# Altium footprint library SG__PCB_LGA.PcbLib: 21 footprints (part 2 of 2)
Each footprint in its own frame and in the unit in brackets; x right, y up, seen from the top. Pads: shape width x height; smd on the part's side, far side on the other; paste and mask are expansions set on the pad; w line width, h text height; cw(c..) or ccw(c..) is an arc to the next point about the centre after c.
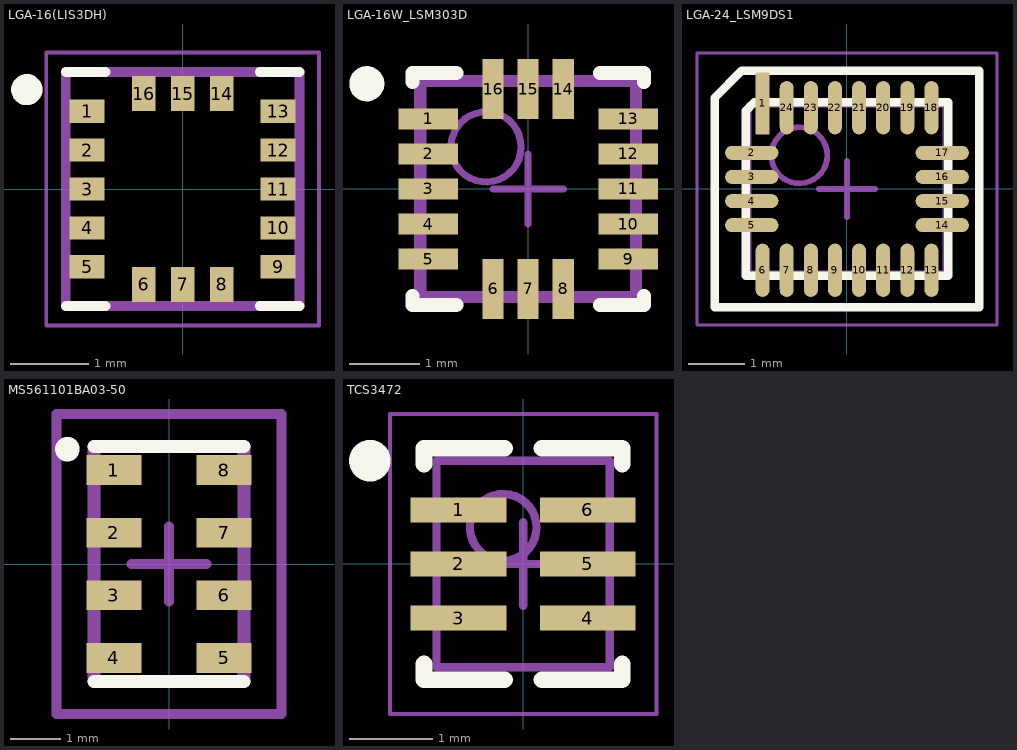
[diagram p1: the footprints below, top view; thin cyan lines are the x and y axes]

## LGA-16(LIS3DH) [mm]
pads (16):
  rect 0.45x0.3 smd paste-1 mask+0: 1(-1.225,1) 2(-1.225,0.5) 3(-1.225,0) 4(-1.225,-0.5) 5(-1.225,-1) 9(1.225,-1) 10(1.225,-0.5) 11(1.225,0) 12(1.225,0.5) 13(1.225,1)
  rect 0.3x0.45 smd paste-1 mask+0: 6(-0.5,-1.225) 7(0,-1.225) 8(0.5,-1.225) 14(0.5,1.225) 15(0,1.225) 16(-0.5,1.225)
Top Overlay:
  circle w0.2: c-2,1.275 r0.1
  lines w0.127: -1.5,-1.5 -0.99,-1.5 ; -1.5,1.5 -0.99,1.5 ; 0.99,-1.5 1.5,-1.5 ; 0.99,1.5 1.5,1.5
Top Paste:
  region: 0.14,-1.405 -0.14,-1.405 -0.14,-1.045 0.14,-1.045
  region: -1.045,-0.14 -1.405,-0.14 -1.405,0.14 -1.045,0.14
  region: 1.405,-0.14 1.045,-0.14 1.045,0.14 1.405,0.14
  region: 0.14,1.045 -0.14,1.045 -0.14,1.405 0.14,1.405
  region: -0.36,1.045 -0.64,1.045 -0.64,1.405 -0.36,1.405
  region: 0.64,1.045 0.36,1.045 0.36,1.405 0.64,1.405
  region: 1.405,0.36 1.045,0.36 1.045,0.64 1.405,0.64
  region: 1.405,0.86 1.045,0.86 1.045,1.14 1.405,1.14
  region: 1.405,-0.64 1.045,-0.64 1.045,-0.36 1.405,-0.36
  region: 1.405,-1.14 1.045,-1.14 1.045,-0.86 1.405,-0.86
  region: 0.64,-1.405 0.36,-1.405 0.36,-1.045 0.64,-1.045
  region: -0.36,-1.405 -0.64,-1.405 -0.64,-1.045 -0.36,-1.045
  region: -1.045,-0.64 -1.405,-0.64 -1.405,-0.36 -1.045,-0.36
  region: -1.045,-1.14 -1.405,-1.14 -1.405,-0.86 -1.045,-0.86
  region: -1.045,0.36 -1.405,0.36 -1.405,0.64 -1.045,0.64
  region: -1.045,0.86 -1.405,0.86 -1.405,1.14 -1.045,1.14
Top Solder:
  region: -0.95,-0.225 -1.5,-0.225 -1.5,0.225 -0.95,0.225
  region: 1.5,-0.225 0.95,-0.225 0.95,0.225 1.5,0.225
  region: 0.225,0.95 -0.225,0.95 -0.225,1.5 0.225,1.5
  region: 0.225,-1.5 -0.225,-1.5 -0.225,-0.95 0.225,-0.95
  region: -0.275,0.95 -0.725,0.95 -0.725,1.5 -0.275,1.5
  region: 0.725,0.95 0.275,0.95 0.275,1.5 0.725,1.5
  region: -0.95,0.275 -1.5,0.275 -1.5,0.725 -0.95,0.725
  region: -0.95,0.775 -1.5,0.775 -1.5,1.225 -0.95,1.225
  region: -0.95,-0.725 -1.5,-0.725 -1.5,-0.275 -0.95,-0.275
  region: -0.95,-1.225 -1.5,-1.225 -1.5,-0.775 -0.95,-0.775
  region: -0.275,-1.5 -0.725,-1.5 -0.725,-0.95 -0.275,-0.95
  region: 0.725,-1.5 0.275,-1.5 0.275,-0.95 0.725,-0.95
  region: 1.5,-0.725 0.95,-0.725 0.95,-0.275 1.5,-0.275
  region: 1.5,-1.225 0.95,-1.225 0.95,-0.775 1.5,-0.775
  region: 1.5,0.275 0.95,0.275 0.95,0.725 1.5,0.725
  region: 1.5,0.775 0.95,0.775 0.95,1.225 1.5,1.225
Mechanical 13:
  circle w0.2: c-2,1.275 r0.1
Assembly Top:
  lines w0.127: -1.5,-1.5 -1.5,1.5 1.5,1.5 1.5,-1.5 -1.5,-1.5
Courtyard Top:
  lines w0.05: -1.75,-1.75 -1.75,1.75 1.75,1.75 1.75,-1.75 -1.75,-1.75
3D body "step_temp.STEP": height 1, standoff 0, extent -1.5,-1.5 1.5,1.5

## LGA-16W_LSM303D [mm] "QFN, 16-Leads, Body 3,00x3,00mm, Pitch 0,50mm, Thermal Pad 1,25x2,25mm, IPC Medium Density"
height 1
pads (16):
  rect 0.85x0.3 smd: 1(-1.425,1) 2(-1.425,0.5) 3(-1.425,0) 4(-1.425,-0.5) 5(-1.425,-1) 9(1.425,-1) 10(1.425,-0.5) 11(1.425,0) 12(1.425,0.5) 13(1.425,1)
  rect 0.3x0.85 smd: 6(-0.5,-1.425) 7(0,-1.425) 8(0.5,-1.425) 14(0.5,1.425) 15(0,1.425) 16(-0.5,1.425)
Top Overlay:
  circle w0.25: c-2.3,1.5 r0.125
  lines w0.2: -1.65,-1.525 -1.65,-1.65 -1.025,-1.65 ; -1.65,1.525 -1.65,1.65 -1.025,1.65 ; 1.025,-1.65 1.65,-1.65 1.65,-1.525 ; 1.025,1.65 1.65,1.65 1.65,1.525
Top Designator:
  text ".Designator" at -7.843,-0.508 h1.52
Assembly Top:
  circle w0.1: c-0.6,0.6 r0.5
  lines w0.1: -1.5,-1.5 -1.5,1.5 1.5,1.5 1.5,-1.5 -1.5,-1.5
Courtyard Top:
  lines w0.1: -0.5,0 0.5,0 ; 0,-0.5 0,0.5 ; -1.574,-1.574 1.574,-1.574 1.574,1.574 -1.574,1.574 -1.574,-1.574
3D body "User Library-LIS331AL.step": height 1.01, standoff -0.01, extent -1.5,-1.5 1.5,1.5

## LGA-24_LSM9DS1 [mm] "QFN, 24-Leads, Body 3,50x3,00mm, Pitch 0,43mm, IPC Low Density"
height 1
pads (24):
  rrect10% 0.25x1.104 smd: 1(-1.505,1.525)
  oval 0.952x0.25 smd: 2(-1.699,0.645) 3(-1.699,0.215) 4(-1.699,-0.215) 5(-1.699,-0.645) 14(1.699,-0.645) 15(1.699,-0.215) 16(1.699,0.215) 17(1.699,0.645)
  oval 0.25x0.952 smd: 6(-1.505,-1.449) 7(-1.075,-1.449) 8(-0.645,-1.449) 9(-0.215,-1.449) 10(0.215,-1.449) 11(0.645,-1.449) 12(1.075,-1.449) 13(1.505,-1.449) 18(1.505,1.449) 19(1.075,1.449) 20(0.645,1.449) 21(0.215,1.449) 22(-0.215,1.449) 23(-0.645,1.449) 24(-1.075,1.449)
Top Overlay:
  lines w0.152: -2.362,-2.108 1.505,-2.108 2.362,-2.108 2.362,2.108 -1.88,2.108 -2.362,1.626 -2.362,-2.108 ; -1.803,-1.549 -1.803,-1.166 -1.803,1.397 -1.651,1.549 1.803,1.549 1.803,-1.549 -1.803,-1.549
Assembly Top:
  circle w0.1: c-0.85,0.6 r0.5
  lines w0.1: -1.75,-1.5 1.75,-1.5 1.75,1.5 -1.75,1.5 -1.75,-1.5
Courtyard Top:
  lines w0.05: -2.675,-2.425 2.675,-2.425 2.675,2.425 -2.675,2.425 -2.675,-2.425
  lines w0.1: -0.5,0 0.5,0 ; 0,-0.5 0,0.5
3D body "QFN43P350X300X100-24M.step": height 1, standoff 0, extent -1.75,-1.5 1.75,1.5

## MS561101BA03-50 [mm]
pads (8):
  rect 1.1x0.6 smd: 1(-1.1,1.875) 2(-1.1,0.625) 3(-1.1,-0.625) 4(-1.1,-1.875) 5(1.1,-1.875) 6(1.1,-0.625) 7(1.1,0.625) 8(1.1,1.875)
Top Overlay:
  circle w0.4: c-2.032,2.297 r0.045
  lines w0.254: -1.5,-2.35 1.5,-2.35 ; -1.5,2.35 1.5,2.35
Assembly Top:
  lines w0.254: -1.5,-2.35 -1.5,2.35 1.5,2.35 1.5,-2.35 -1.5,-2.35
Courtyard Top:
  lines w0.2: -0.75,0 0.75,0 ; 0,-0.75 0,0.75 ; -2.25,-3 -2.25,3 2.25,3 2.25,-3 -2.25,-3
3D body "MS561101BA03-50.stp": height 0.95, standoff 0, extent -1.5,-2.5 1.5,2.5

## TCS3472 [mm] "COLOR LIGHT-TO-DIGITAL CONVERTER"
height 0.7
pads (6):
  rect 1.15x0.3 smd: 1(-0.775,0.65) 2(-0.775,0) 3(-0.775,-0.65) 4(0.775,-0.65) 5(0.775,0) 6(0.775,0.65)
Top Overlay:
  circle w0.25: c-1.84,1.24 r0.125
  lines w0.2: -1.19,-1.2 -1.19,-1.39 -0.225,-1.39 ; -1.19,1.2 -1.19,1.39 -0.225,1.39 ; 0.225,-1.39 1.19,-1.39 1.19,-1.2 ; 0.225,1.39 1.19,1.39 1.19,1.2
Assembly Top:
  circle w0.1: c-0.24,0.44 r0.4
  lines w0.1: -1.04,-1.24 1.04,-1.24 1.04,1.24 -1.04,1.24 -1.04,-1.24
Courtyard Top:
  lines w0.05: -1.6,-1.8 -1.6,1.8 1.6,1.8 1.6,-1.8 -1.6,-1.8
  lines w0.1: -0.5,0 0.5,0 ; 0,-0.5 0,0.5
3D body "TCS3472.STEP": height 0.6, standoff 0, extent -1.05,-1.2 1.05,1.2